# Altium schematic symbol library PMA3-73-1W+.SchLib: 1 symbol
Pins are listed as number, name and electrical type; pins without a type are passive.

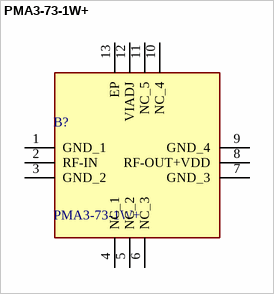
[diagram p0: symbol PMA3-73-1W+]

## PMA3-73-1W+
designator B?
Mini-Circuits SMT MMIC, Power Amplifier, 300 MHz to 7500 MHz, 50ohm, 3x3 mm QFN Style Package; Geometry.Height: 0.89mm; Mouser Part Number: *; Mouser Price/Stock: *; Manufacturer_Name: Mini-Circuits; Manufacturer_Part_Number: PMA3-73-1W+; Datasheet Link: https://www.minicircuits.com/WebStore/dashboard.html?model=PMA3-73-1W%2B
footprint QFN51P300X300X89-13N
pins: 1 GND_1, 2 RF-IN, 3 GND_2, 4 NC_1, 5 NC_2, 6 NC_3, 7 GND_3, 8 RF-OUT+VDD, 9 GND_4, 10 NC_4, 11 NC_5, 12 VIADJ, 13 EP